# EAGLE library part CONN_RJ45_POE (library GPLIB_CONN)
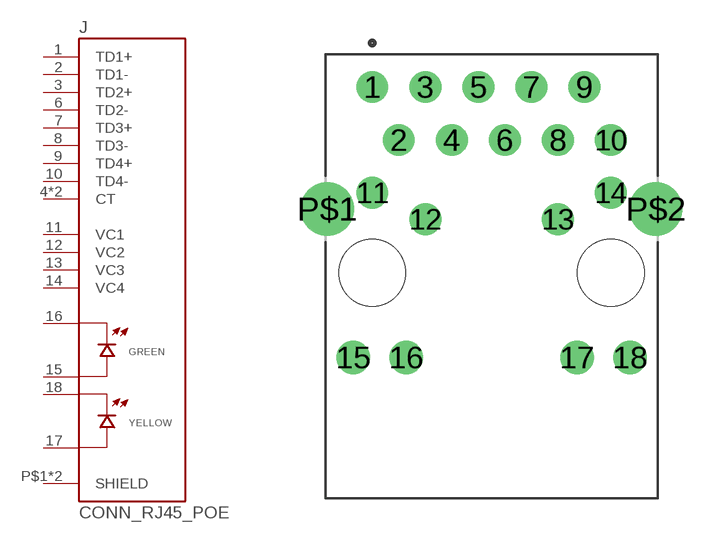
[diagram p34: symbol with the pads of CONN_RJ45_LINK-PP_LPJG0926HENL; footprint CONN_RJ45_LINK-PP_LPJG0926HENL]

Designator prefix J

## CONN_RJ45_POE_LPJG0926HENL  [CONN_RJ45_LINK-PP_LPJG0926HENL]
1  TD1+  pas
2  TD1-  pas
3  TD2+  pas
4  CT  pas
5  CT  pas
6  TD2-  pas
7  TD3+  pas
8  TD3-  pas
9  TD4+  pas
10  TD4-  pas
11  VC1  pas
12  VC2  pas
13  VC3  pas
14  VC4  pas
15  GA  pas
16  GC  pas
17  YA  pas
18  YC  pas
P$1  SHIELD  pas
P$2  SHIELD  pas

## Footprint CONN_RJ45_LINK-PP_LPJG0926HENL (pad centres in mm)
drill 0.9 pad 1.524: 1 -5.715,6.475; 2 -4.445,3.935; 3 -3.175,6.475; 4 -1.905,3.935; 5 -0.635,6.475; 6 0.635,3.935; 7 1.905,6.475; 8 3.175,3.935; 9 4.445,6.475; 10 5.715,3.935; 11 -5.715,1.415; 12 -3.175,0.145; 13 3.175,0.145; 14 5.715,1.415
drill 1.02 pad 1.6: 15 -6.63,-6.475; 16 -4.09,-6.475; 17 4.09,-6.475; 18 6.63,-6.475
drill 1.7 pad 2.3: P$1 -7.875,0.635; P$2 7.875,0.635
hole 3.2 at 5.715,-2.415
hole 3.2 at -5.715,-2.415